# Altium schematic symbol library JE.SchLib: 1 symbol
Pins are listed as number, name and electrical type; pins without a type are passive.

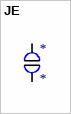
[diagram p0: symbol JE]

## JE
designator *
footprint JE
pins: 1, 2